# Altium footprint library Active.PcbLib: 31 footprints (part 2 of 2)
Each footprint in its own frame and in the unit in brackets; x right, y up, seen from the top. Pads: shape width x height; smd on the part's side, far side on the other; paste and mask are expansions set on the pad; w line width, h text height; cw(c..) or ccw(c..) is an arc to the next point about the centre after c.
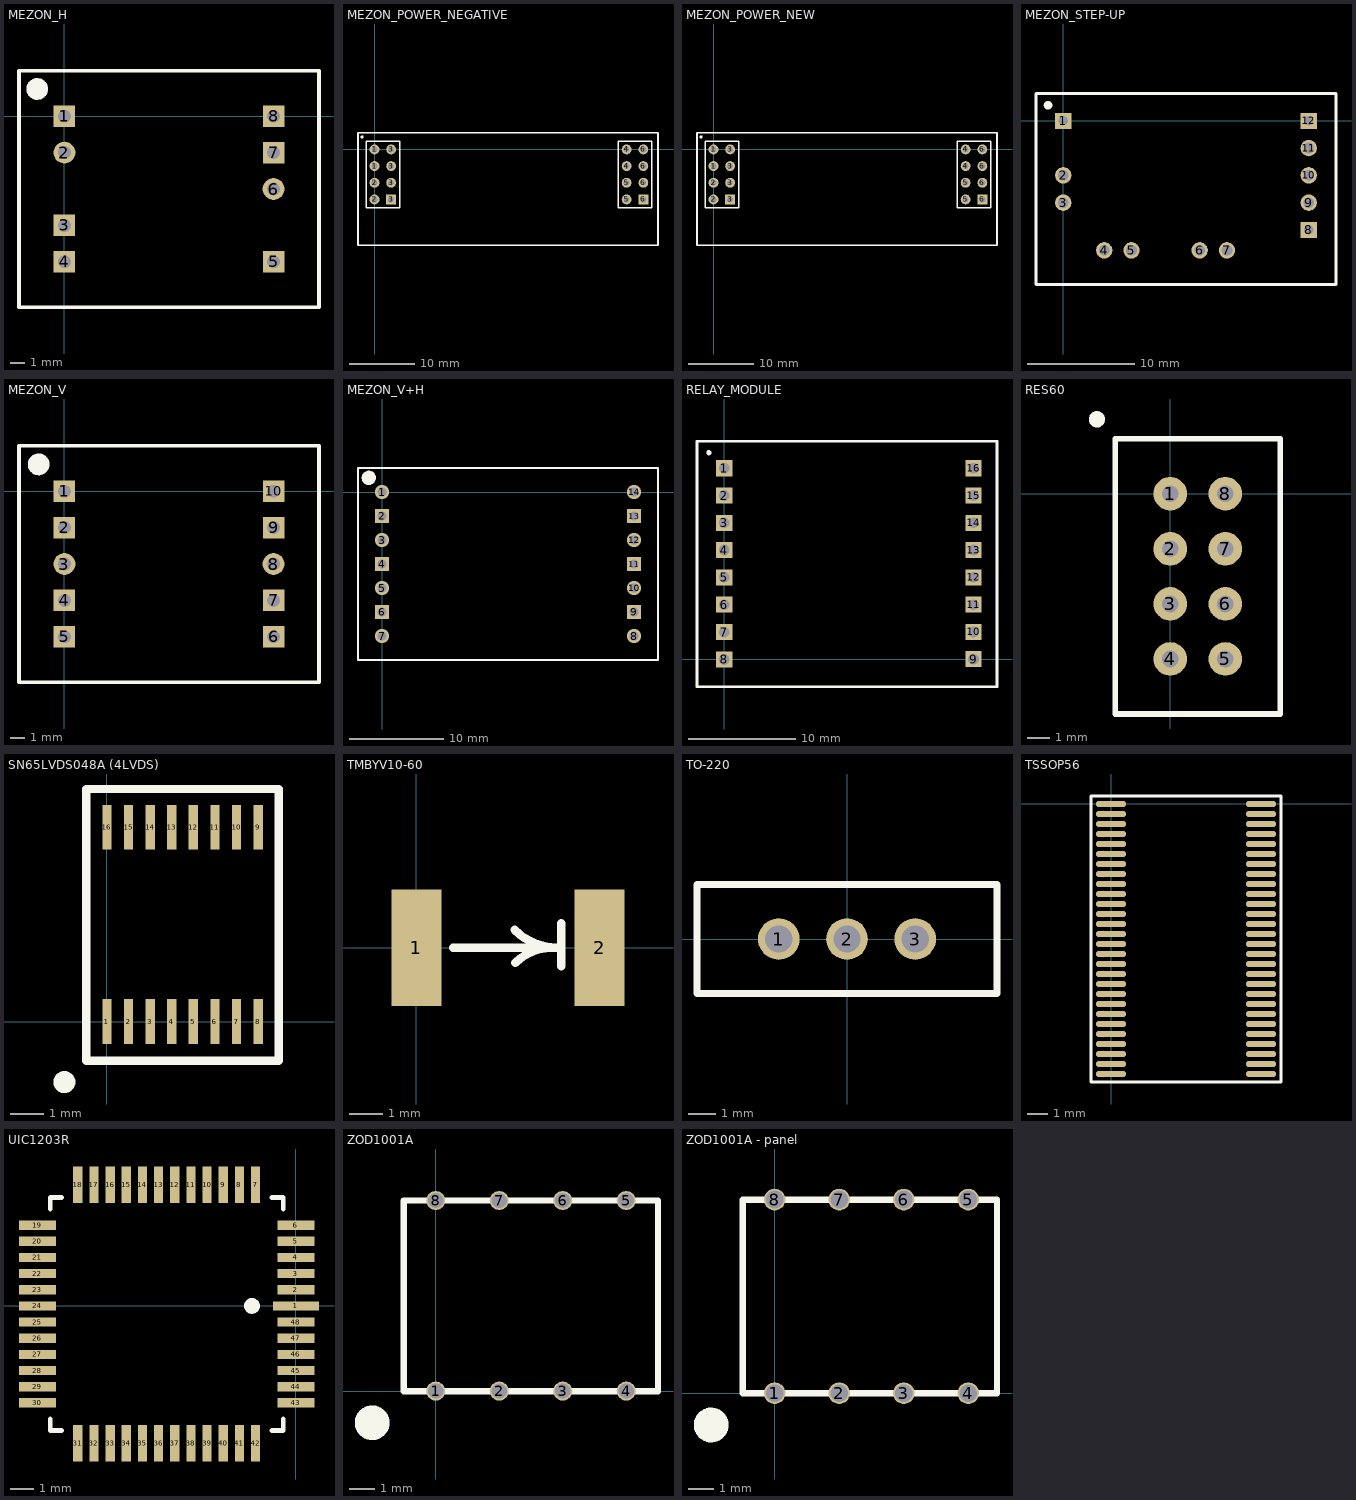
[diagram p1: the footprints below, top view; thin cyan lines are the x and y axes]

## MEZON_H [mm]
pads (8):
  rect 1.5x1.5 hole 0.9: 1(0,0) 3(0,-7.62) 4(0,-10.16) 5(14.605,-10.16) 7(14.605,-2.54) 8(14.605,0)
  round 1.524 hole 0.9: 2(0,-2.54) 6(14.605,-5.08)
Top Overlay:
  circle w0.254: c-1.905,1.905 r0.635
  circle w0.254: c-1.905,1.905 r0.402
  circle w0.254: c-1.905,1.905 r0.17
  circle w0.254: c-1.735,1.905 r0.196
  lines w0.254: -3.175,-13.335 17.78,-13.335 17.78,3.175 -3.175,3.175 -3.175,-13.335

## MEZON_POWER_NEGATIVE [mm]
pads (16):
  round 1.5 hole 0.9: 1(0,-2.54) 1(0,0) 2(0,-7.62) 2(0,-5.08) 3(2.54,-5.08) 3(2.54,-2.54) 3(2.54,0) 4(38.43,-2.54) 4(38.43,0) 5(38.43,-7.62) 5(38.43,-5.08) 6(40.97,-5.08) 6(40.97,-2.54) 6(40.97,0)
  rect 1.5x1.5 hole 0.9: 3(2.54,-7.62) 6(40.97,-7.62)
Top Overlay:
  circle w0.254: c-1.88,1.905 r0.114
  lines w0.2: -1.27,-8.89 -1.27,1.27 3.81,1.27 3.81,-8.89 -1.27,-8.89 ; 37.16,-8.89 37.16,1.27 42.24,1.27 42.24,-8.89 37.16,-8.89
  lines w0.254: -2.515,-14.605 -2.515,2.54 43.205,2.54 43.205,-14.605 -2.515,-14.605

## MEZON_POWER_NEW [mm]
pads (16):
  round 1.5 hole 0.9: 1(0,-2.54) 1(0,0) 2(0,-7.62) 2(0,-5.08) 3(2.54,-5.08) 3(2.54,-2.54) 3(2.54,0) 4(38.43,-2.54) 4(38.43,0) 5(38.43,-7.62) 5(38.43,-5.08) 6(40.97,-5.08) 6(40.97,-2.54) 6(40.97,0)
  rect 1.5x1.5 hole 0.9: 3(2.54,-7.62) 6(40.97,-7.62)
Top Overlay:
  circle w0.254: c-1.88,1.905 r0.114
  lines w0.2: -1.27,-8.89 3.81,-8.89 3.81,1.27 -1.27,1.27 -1.27,-8.89 ; 37.16,-8.89 42.24,-8.89 42.24,1.27 37.16,1.27 37.16,-8.89
  lines w0.254: -2.515,-14.605 43.205,-14.605 43.205,2.54 -2.515,2.54 -2.515,-14.605

## MEZON_STEP-UP [mm] "MEZON_STEP-UP"
pads (12):
  rect 1.5x1.5 hole 0.9: 1(0,0) 8(22.86,-10.16) 12(22.86,0)
  round 1.524 hole 1: 2(0,-5.08) 3(0,-7.62) 4(3.81,-12.065) 5(6.35,-12.065) 6(12.7,-12.065) 7(15.24,-12.065) 9(22.86,-7.62) 10(22.86,-5.08) 11(22.86,-2.54)
Top Overlay:
  circle w0.254: c-1.422,1.499 r0.155
  circle w0.254: c-1.422,1.448 r0.274
  circle w0.254: c-1.448,1.524 r0.092
  lines w0.254: -2.54,-15.24 -2.54,2.54 25.4,2.54 25.4,-15.24 -2.54,-15.24

## MEZON_V [mm]
pads (10):
  rect 1.5x1.5 hole 0.9: 1(0,0) 2(0,-2.54) 4(0,-7.62) 5(0,-10.16) 6(14.605,-10.16) 7(14.605,-7.62) 9(14.605,-2.54) 10(14.605,0)
  round 1.524 hole 0.9: 3(0,-5.08) 8(14.605,-5.08)
Top Overlay:
  circle w0.254: c-1.803,1.88 r0.635
  circle w0.254: c-1.803,1.88 r0.402
  circle w0.254: c-1.803,1.88 r0.17
  circle w0.254: c-1.633,1.88 r0.196
  lines w0.254: -3.175,-13.335 -3.175,3.175 17.78,3.175 17.78,2.54 17.78,-13.335 -3.175,-13.335

## MEZON_V+H [mm] "MEZON_V+H"
height 5
pads (14):
  round 1.524 hole 0.9: 1(0,0) 3(0,-5.08) 5(0,-10.16) 7(0,-15.24) 8(26.67,-15.24) 10(26.67,-10.16) 12(26.67,-5.08) 14(26.67,0)
  rect 1.5x1.5 hole 0.9: 2(0,-2.54) 4(0,-7.62) 6(0,-12.7) 9(26.67,-12.7) 11(26.67,-7.62) 13(26.67,-2.54)
Top Overlay:
  circle w0.254: c-1.227,1.499 r0.196
  circle w0.254: c-1.397,1.499 r0.17
  circle w0.254: c-1.397,1.499 r0.402
  circle w0.254: c-1.397,1.499 r0.635
  lines w0.254: -2.54,-17.78 29.21,-17.78 29.21,2.54 -2.54,2.54 -2.54,-17.78

## RELAY_MODULE [mm]
pads (16):
  rect 1.5x1.5 hole 1: 1(0,17.805) 2(0,15.265) 3(0,12.725) 4(0,10.185) 5(0,7.645) 6(0,5.105) 7(0,2.54) 8(0,0) 9(23.216,0.025) 10(23.216,2.565) 11(23.216,5.105) 12(23.216,7.645) 13(23.216,10.185) 14(23.216,12.725) 15(23.216,15.265) 16(23.216,17.805)
Top Overlay:
  lines w0.254: -1.321,19.304 ccw(c-1.43,19.262) -1.313,19.27 ; -2.54,-2.54 -2.54,20.32 25.4,20.32 25.4,-2.54 -2.54,-2.54

## RES60 [mil] "RES60"
height 984.25
pads (8):
  round 60 hole 30: 1(0,0) 2(0,-98.43) 3(0,-196.85) 4(0,-295.28) 5(98.43,-295.28) 6(98.43,-196.85) 7(98.43,-98.43) 8(98.43,0)
Top Overlay:
  circle w10: c-132,133 r2.83
  circle w10: c-131,133 r9.49
  lines w10: -98.43,-393.7 196.85,-393.7 196.85,98.43 -98.43,98.43 -98.43,-393.7

## SN65LVDS048A (4LVDS) [mm]
pads (16):
  rect 0.28x1.35 smd: 1(0,0) 2(0.65,0) 3(1.3,0) 4(1.95,0) 5(2.6,0) 6(3.25,0) 7(3.9,0) 8(4.55,0) 9(4.55,5.85) 10(3.9,5.85) 11(3.25,5.85) 12(2.6,5.85) 13(1.95,5.85) 14(1.3,5.85) 15(0.65,5.85) 16(0,5.85)
Top Overlay:
  circle w0.254: c-1.285,-1.825 r0.206
  circle w0.254: c-1.31,-1.825 r0.035
  lines w0.254: -0.625,-1.175 -0.625,7 5.175,7 5.175,-1.175 -0.625,-1.175

## TMBYV10-60 [mm] "TMBYV10-60"
height 5
pads (2):
  rect 1.5x3.5 smd: 1(0,0) 2(5.5,0)
Top Overlay:
  lines w0.254: 1.1,0 4.3,0 ; 2.946,0.533 ccw(c4.234,1.821) 4.234,0 4.3,0 ; 2.972,-0.457 cw(c4.076,-1.561) 4.076,0 4.3,0 ; 4.242,0 4.3,0 ; 4.343,-0.559 4.343,0.737

## TO-220 [mil]
pads (3):
  round 60 hole 39.37: 1(-98.43,0) 2(0,0) 3(98.43,0)
Top Overlay:
  lines w10: -216.54,-78.74 -216.54,78.74 216.54,78.74 216.54,-78.74 -216.54,-78.74

## TSSOP56 [mm]
height 5
pads (56):
  oval 1.5x0.3 smd: 1(0,0) 2(0,-0.5) 3(0,-1) 4(0,-1.5) 5(0,-2) 6(0,-2.5) 7(0,-3) 8(0,-3.5) 9(0,-4) 10(0,-4.5) 11(0,-5) 12(0,-5.5) 13(0,-6) 14(0,-6.5) 15(0,-7) 16(0,-7.5) 17(0,-8) 18(0,-8.5) 19(0,-9) 20(0,-9.5) 21(0,-10) 22(0,-10.5) 23(0,-11) 24(0,-11.5) 25(0,-12) 26(0,-12.5) 27(0,-13) 28(0,-13.5) 29(7.5,-13.5) 30(7.5,-13) 31(7.5,-12.5) 32(7.5,-12) 33(7.5,-11.5) 34(7.5,-11) 35(7.5,-10.5) 36(7.5,-10) 37(7.5,-9.5) 38(7.5,-9) 39(7.5,-8.5) 40(7.5,-8) 41(7.5,-7.5) 42(7.5,-7) 43(7.5,-6.5) 44(7.5,-6) 45(7.5,-5.5) 46(7.5,-5) 47(7.5,-4.5) 48(7.5,-4) 49(7.5,-3.5) 50(7.5,-3) 51(7.5,-2.5) 52(7.5,-2) 53(7.5,-1.5) 54(7.5,-1) 55(7.5,-0.5) 56(7.5,0)
Top Overlay:
  lines w0.15: -1,-13.9 -1,0.4 8.5,0.4 8.5,-13.9 -1,-13.9

## UIC1203R [mm]
height 3
pads (48):
  rect 2x0.4 smd: 1(0,0)
  rect 1.6x0.4 smd: 2(0,0.7) 3(0,1.4) 4(0,2.1) 5(0,2.8) 6(0,3.5) 19(-11.2,3.5) 20(-11.2,2.8) 21(-11.2,2.1) 22(-11.2,1.4) 23(-11.2,0.7) 24(-11.2,0) 25(-11.2,-0.7) 26(-11.2,-1.4) 27(-11.2,-2.1) 28(-11.2,-2.8) 29(-11.2,-3.5) 30(-11.2,-4.2) 43(0,-4.2) 44(0,-3.5) 45(0,-2.8) 46(0,-2.1) 47(0,-1.4) 48(0,-0.7)
  rect 0.4x1.6 smd: 7(-1.75,5.25) 8(-2.45,5.25) 9(-3.15,5.25) 10(-3.85,5.25) 11(-4.55,5.25) 12(-5.25,5.25) 13(-5.95,5.25) 14(-6.65,5.25) 15(-7.35,5.25) 16(-8.05,5.25) 17(-8.75,5.25) 18(-9.45,5.25) 31(-9.45,-5.95) 32(-8.75,-5.95) 33(-8.05,-5.95) 34(-7.35,-5.95) 35(-6.65,-5.95) 36(-5.95,-5.95) 37(-5.25,-5.95) 38(-4.55,-5.95) 39(-3.85,-5.95) 40(-3.15,-5.95) 41(-2.45,-5.95) 42(-1.75,-5.95)
Top Overlay:
  circle w0.254: c-1.905,0 r0.076
  circle w0.254: c-1.905,0 r0.216
  lines w0.2: -10.65,-4.9 -10.65,-5.4 -10.15,-5.4 ; -10.65,4.2 -10.65,4.7 -10.15,4.7 ; -1.05,-5.4 -0.55,-5.4 -0.55,-4.9 ; -1.05,4.7 -0.55,4.7 -0.55,4.2

## ZOD1001A [mm] "Optopara"
pads (8):
  round 0.75 hole 0.6: 1(0,0) 2(2.5,0) 3(5,0) 4(7.5,0) 5(7.5,7.5) 6(5,7.5) 7(2.5,7.5) 8(0,7.5)
Top Overlay:
  circle w0.5: c-2.5,-1.25 r0.25
  circle w0.254: c-2.5,-1.25 r0.354
  circle w0.254: c-2.5,-1.25 r0.559
  lines w0.254: -1.25,0 -1.25,7.5 8.75,7.5 8.75,0 -1.25,0
3D body: height 3.15, standoff -4.8, extent -1.251,-0.301 8.75,7.501

## ZOD1001A - panel [mm] "Optopara"
pads (8):
  round 0.85 hole 0.7: 1(0,0) 2(2.54,0) 3(5.08,0) 4(7.62,0) 5(7.62,7.62) 6(5.08,7.62) 7(2.54,7.62) 8(0,7.62)
Top Overlay:
  circle w0.254: c-2.5,-1.25 r0.559
  circle w0.254: c-2.5,-1.25 r0.354
  circle w0.5: c-2.5,-1.25 r0.25
  lines w0.254: -1.25,0 8.75,0 8.75,7.62 -1.25,7.62 -1.25,0
3D body: height 3.15, standoff -4.8, extent -1.245,-0.072 8.756,7.73